# Altium schematic symbol library Transistors.SchLib: 3 symbols
Pins are listed as number, name and electrical type; pins without a type are passive.

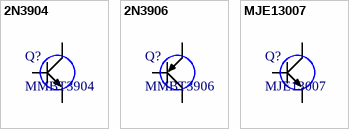
[diagram p0: symbols 2N3904 to MJE13007]

## 2N3904
designator Q?, comment MMBT3904
NPN General Purpose Transistor; Collector-Emitter Voltage: 40V; Collector-Base Voltage: 60V; Collector Current - Continuous: 200mA; DC Current Gain: 300
footprint SOT23
simulation model 2N3904 (Model Generated by MODPEX)
pins: 1 B, 2 E, 3 C

## 2N3906
designator Q?, comment MMBT3906
PNP General Purpose Transistor; Collector-Emitter Voltage: -40V; Collector-Base Voltage: -60V; Collector Current - Continuous: 200mA; DC Current Gain: 300
footprint SOT23
simulation model 2N3906 (Model Generated by MODPEX)
pins: 1 B, 2 E, 3 C

## MJE13007
designator Q?
Switch-mode NPN Bipolar  Power Transistor; Vceo: 400V; Vces: 700V; Vebo: 9V; Ic: 8A; hfe: 30-40; Fmax: 14MHz
footprint TO-220-3 (TO-220-3 Vertical standing)
simulation model QMJE13007 (Model Generated by MODPEX)
footprint TO-220-3 H (TO-220-3 Horisontal screwed)
pins: 1 B, 2 C, 3 E